# Altium footprint library connectors.PcbLib: 53 footprints (part 2 of 4)
Each footprint in its own frame and in the unit in brackets; x right, y up, seen from the top. Pads: shape width x height; smd on the part's side, far side on the other; paste and mask are expansions set on the pad; w line width, h text height; cw(c..) or ccw(c..) is an arc to the next point about the centre after c.
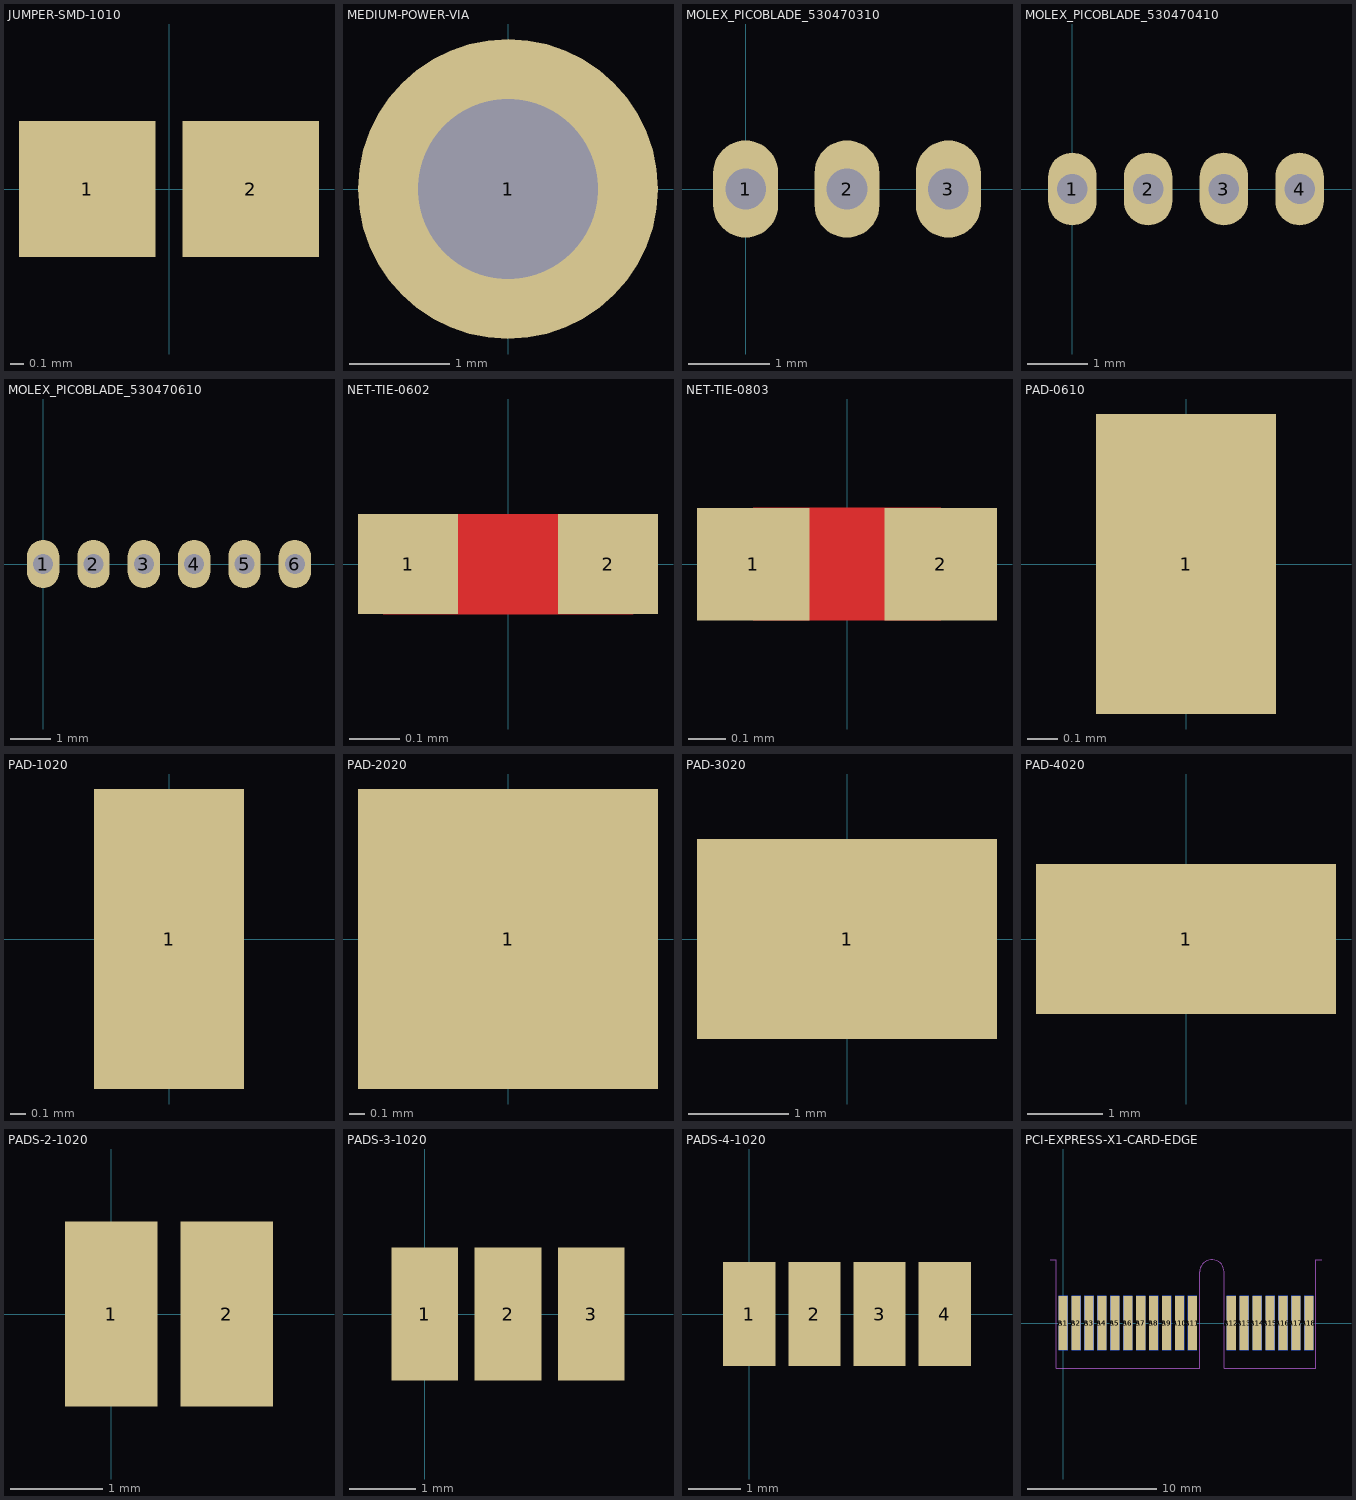
[diagram p1: the footprints below, top view; thin cyan lines are the x and y axes]

## JUMPER-SMD-1010 [mm]
pads (2):
  rect 1x1 smd: 1(-0.6,0) 2(0.6,0)

## MEDIUM-POWER-VIA [mm]
pads (1):
  round 3 hole 1.8: 1(0,0)

## MOLEX_PICOBLADE_530470310 [mm]
pads (3):
  oval 0.8x1.2 hole 0.5: 1(0,0) 2(1.25,0) 3(2.5,0)
3D body "530470310.stp": height 4.21, standoff -2.29, extent -1.5,-1.15 4,2.05

## MOLEX_PICOBLADE_530470410 [mm]
pads (4):
  oval 0.8x1.2 hole 0.5: 1(0,0) 2(1.25,0) 3(2.5,0) 4(3.75,0)
3D body "530470410.stp": height 4.21, standoff -2.29, extent -1.5,-1.15 5.25,2.05

## MOLEX_PICOBLADE_530470610 [mm]
pads (6):
  oval 0.8x1.2 hole 0.5: 1(0,0) 2(1.25,0) 3(2.5,0) 4(3.75,0) 5(5,0) 6(6.25,0)
3D body "530470610.stp": height 4.21, standoff -2.29, extent -1.5,-1.15 7.75,2.05

## NET-TIE-0602 [mm]
pads (2):
  rect 0.2x0.2 smd paste-0.15 mask-0.15: 1(-0.2,0) 2(0.2,0)
Top Layer:
  region: -0.25,-0.1 -0.25,0.1 0.25,0.1 0.25,-0.1

## NET-TIE-0803 [mm]
pads (2):
  rect 0.3x0.3 smd paste-0.15 mask-0.15: 1(-0.25,0) 2(0.25,0)
Top Layer:
  region: -0.25,-0.15 -0.25,0.15 0.25,0.15 0.25,-0.15

## PAD-0610 [mm]
pads (1):
  rect 0.6x1 smd: 1(0,0)

## PAD-1020 [mm]
pads (1):
  rect 1x2 smd: 1(0,0)

## PAD-2020 [mm]
pads (1):
  rect 2x2 smd: 1(0,0)

## PAD-3020 [mm]
pads (1):
  rect 3x2 smd: 1(0,0)

## PAD-4020 [mm]
pads (1):
  rect 4x2 smd: 1(0,0)

## PADS-2-1020 [mm]
pads (2):
  rect 1x2 smd: 1(0,0) 2(1.25,0)

## PADS-3-1020 [mm]
pads (3):
  rect 1x2 smd: 1(0,0) 2(1.25,0) 3(2.5,0)

## PADS-4-1020 [mm]
pads (4):
  rect 1x2 smd: 1(0,0) 2(1.25,0) 3(2.5,0) 4(3.75,0)

## PCI-EXPRESS-X1-CARD-EDGE [mm]
pads (36):
  rect 0.7x4.2 smd far side: A1(0,0) A2(1,0) A3(2,0) A4(3,0) A5(4,0) A6(5,0) A7(6,0) A8(7,0) A9(8,0) A10(9,0) A11(10,0) A12(13,0) A13(14,0) A14(15,0) A15(16,0) A16(17,0) A17(18,0) A18(19,0)
  rect 0.7x4.2 smd: B1(0,0) B2(1,0) B3(2,0) B4(3,0) B5(4,0) B6(5,0) B7(6,0) B8(7,0) B9(8,0) B10(9,0) B11(10,0) B12(13,0) B13(14,0) B14(15,0) B15(16,0) B16(17,0) B17(18,0) B18(19,0)
Top 3D Body (Mech13):
  lines w0.01: -1,4.9 -0.55,4.9 -0.55,-3.5 10.55,-3.5 10.55,3.95 cw(c11.5,3.95) 12.45,3.95 12.45,-3.5 19.55,-3.5 19.55,4.9 20,4.9